# EAGLE library part MP4816 (library Bauteile)
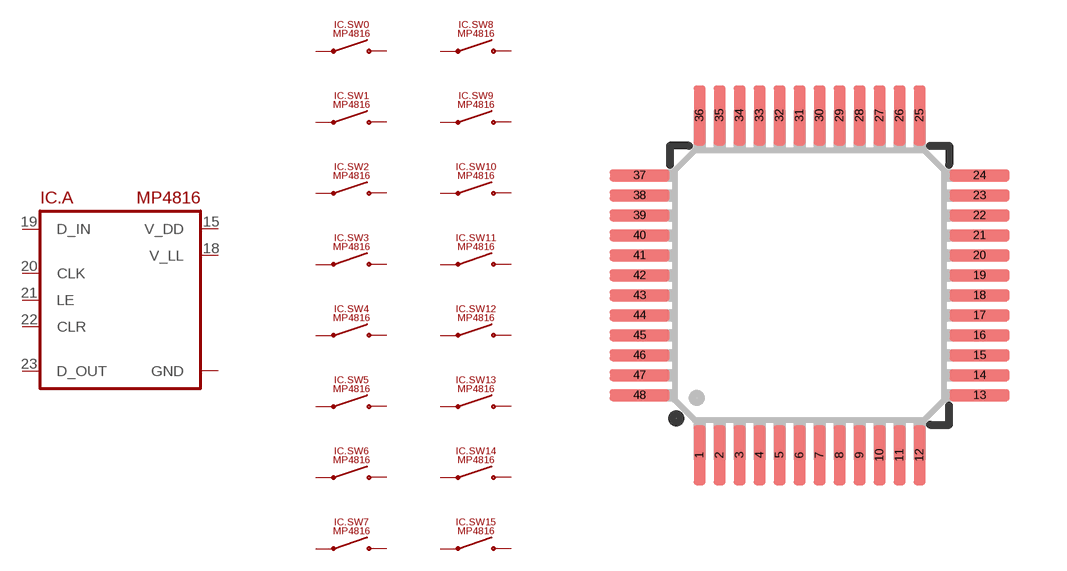
[diagram p199: symbol with the pads of TQFP48-0.5; footprint TQFP48-0.5]

Designator prefix IC; gates .A=MP4816 .SW0=SWITCH_1POLE .SW1=SWITCH_1POLE .SW2=SWITCH_1POLE .SW3=SWITCH_1POLE .SW4=SWITCH_1POLE .SW5=SWITCH_1POLE .SW6=SWITCH_1POLE .SW7=SWITCH_1POLE .SW8=SWITCH_1POLE .SW9=SWITCH_1POLE .SW10=SWITCH_1POLE .SW11=SWITCH_1POLE .SW12=SWITCH_1POLE .SW13=SWITCH_1POLE .SW14=SWITCH_1POLE .SW15=SWITCH_1POLE

## MP4816 (I_MAX: ±60mA; V_MAX: ±90V)  [TQFP48-0.5]
3  .SW4:SW
4  .SW4:NO
5  .SW3:SW
6  .SW3:NO
7  .SW2:SW
8  .SW2:NO
9  .SW1:SW
10  .SW1:NO
11  .SW0:SW
12  .SW0:NO
13  .A:GND
14  .A:GND
15  .A:V_DD
17  .A:GND
18  .A:V_LL
19  .A:D_IN
20  .A:CLK
21  .A:LE
22  .A:CLR
23  .A:D_OUT
25  .SW15:SW
26  .SW15:NO
27  .SW14:SW
28  .SW14:NO
29  .SW13:SW
30  .SW13:NO
31  .SW12:SW
32  .SW12:NO
33  .SW11:SW
34  .SW11:NO
37  .SW10:SW
38  .SW10:NO
39  .SW9:SW
40  .SW9:NO
41  .SW8:SW
42  .SW8:NO
43  .SW7:SW
44  .SW7:NO
45  .SW6:SW
46  .SW6:NO
47  .SW5:SW
48  .SW5:NO

## Footprint TQFP48-0.5 (pad centres in mm)
Thin Quad Flat Pack
smd 0.3 x 1.5: 1 -2.75,-4.25; 2 -2.25,-4.25; 3 -1.75,-4.25; 4 -1.25,-4.25; 5 -0.75,-4.25; 6 -0.25,-4.25; 7 0.25,-4.25; 8 0.75,-4.25; 9 1.25,-4.25; 10 1.75,-4.25; 11 2.25,-4.25; 12 2.75,-4.25; 25 2.75,4.25; 26 2.25,4.25; 27 1.75,4.25; 28 1.25,4.25; 29 0.75,4.25; 30 0.25,4.25; 31 -0.25,4.25; 32 -0.75,4.25; 33 -1.25,4.25; 34 -1.75,4.25; 35 -2.25,4.25; 36 -2.75,4.25
smd 1.5 x 0.3: 13 4.25,-2.75; 14 4.25,-2.25; 15 4.25,-1.75; 16 4.25,-1.25; 17 4.25,-0.75; 18 4.25,-0.25; 19 4.25,0.25; 20 4.25,0.75; 21 4.25,1.25; 22 4.25,1.75; 23 4.25,2.25; 24 4.25,2.75; 37 -4.25,2.75; 38 -4.25,2.25; 39 -4.25,1.75; 40 -4.25,1.25; 41 -4.25,0.75; 42 -4.25,0.25; 43 -4.25,-0.25; 44 -4.25,-0.75; 45 -4.25,-1.25; 46 -4.25,-1.75; 47 -4.25,-2.25; 48 -4.25,-2.75